# Altium footprint library WIFI（18-7-31）.PcbLib: 6 footprints
Each footprint in its own frame and in the unit in brackets; x right, y up, seen from the top. Pads: shape width x height; smd on the part's side, far side on the other; paste and mask are expansions set on the pad; w line width, h text height; cw(c..) or ccw(c..) is an arc to the next point about the centre after c.
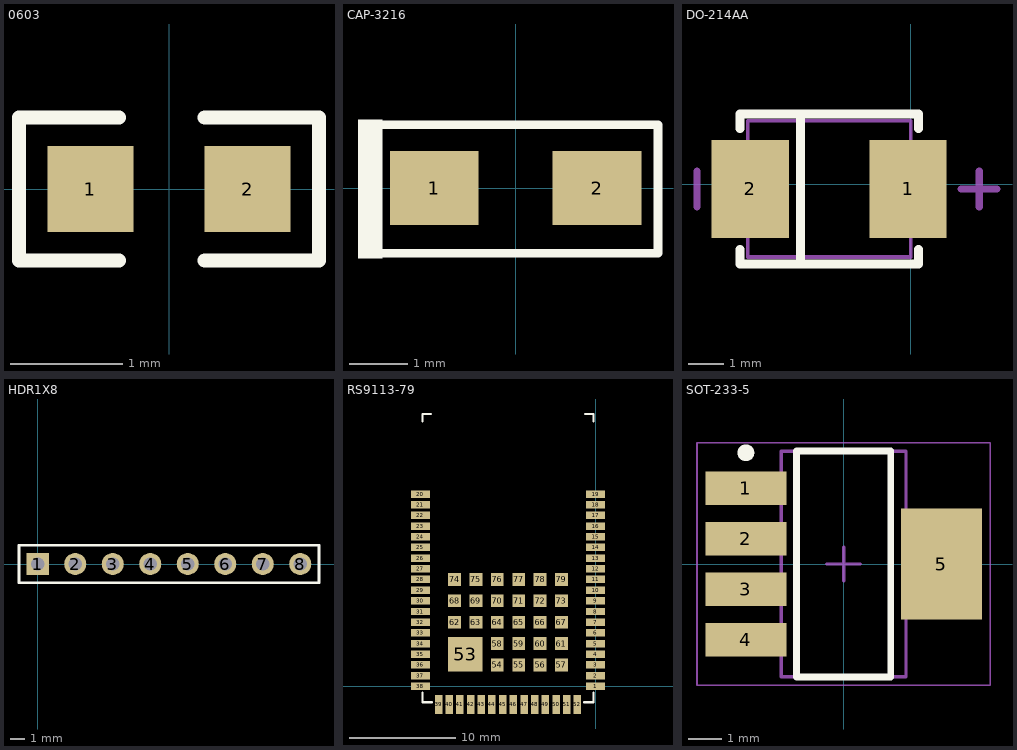
[diagram p0: the footprints below, top view; thin cyan lines are the x and y axes]

## 0603 [mil]
pads (2):
  rect 30x30 smd: 1(-27.5,0) 2(27.5,0)
Top Overlay:
  lines w5: -17.5,-25 -52.5,-25 -52.5,25 -17.5,25 ; 12.5,-25 52.5,-25 52.5,25 12.5,25
3D body: height 20.79, standoff 0.79, extent -32.5,-15 30.5,17

## CAP-3216 [mil] "钽电容"
height 78.74
pads (2):
  rect 60x50 smd: 1(-55,0) 2(55,0)
Top Overlay:
  region: -90,46.39 -106.46,46.39 -106.46,-47.61 -90,-47.61
  lines w5.91: -94.83,-43.92 96.11,-43.92 96.11,42.69 -94.83,42.69

## DO-214AA [mil]
pads (2):
  rect 85x107.99 smd: 1(-2.99,-5) 2(-177.01,-5)
Top Overlay:
  lines w10: -188.43,-71.93 -188.43,-87.68 8.43,-87.68 8.43,-71.93 ; -188.43,61.93 -188.43,77.68 8.43,77.68 8.43,61.93 ; -121.5,-87.68 -121.5,77.68
Mechanical 13:
  lines w3.94: -179.96,-80 -179.96,70 -0.04,70 -0.04,-80 -179.96,-80
Mechanical 15:
  lines w8: -235.67,-24.68 -235.67,14.69 ; 55.67,-5 95.04,-5 ; 75.35,-24.68 75.35,14.69

## HDR1X8 [mm] "Connector; Header; 8 Position"
pads (8):
  rect 1.5x1.5 hole 0.9: 1(0,0)
  round 1.5 hole 0.9: 2(2.54,0) 3(5.08,0) 4(7.62,0) 5(10.16,0) 6(12.7,0) 7(15.24,0) 8(17.78,0)
Top Overlay:
  lines w0.2: -1.27,-1.27 19.05,-1.27 19.05,1.27 -1.27,1.27 -1.27,-1.27

## RS9113-79 [mm]
pads (79):
  rect 1.8x0.7 smd: 1(0,0) 2(0,1) 3(0,2) 4(0,3) 5(0,4) 6(0,5) 7(0,6) 8(0,7) 9(0,8) 10(0,9) 11(0,10) 12(0,11) 13(0,12) 14(0,13) 15(0,14) 16(0,15) 17(0,16) 18(0,17) 19(0,18) 20(-16.4,18) 21(-16.4,17) 22(-16.4,16) 23(-16.4,15) 24(-16.4,14) 25(-16.4,13) 26(-16.4,12) 27(-16.4,11) 28(-16.4,10) 29(-16.4,9) 30(-16.4,8) 31(-16.4,7) 32(-16.4,6) 33(-16.4,5) 34(-16.4,4) 35(-16.4,3) 36(-16.4,2) 37(-16.4,1) 38(-16.4,0)
  rect 0.7x1.8 smd: 39(-14.7,-1.7) 40(-13.7,-1.7) 41(-12.7,-1.7) 42(-11.7,-1.7) 43(-10.7,-1.7) 44(-9.7,-1.7) 45(-8.7,-1.7) 46(-7.7,-1.7) 47(-6.7,-1.7) 48(-5.7,-1.7) 49(-4.7,-1.7) 50(-3.7,-1.7) 51(-2.7,-1.7) 52(-1.7,-1.7)
  rect 3.2x3.2 smd: 53(-12.2,3)
  rect 1.2x1.2 smd: 54(-9.2,2) 55(-7.2,2) 56(-5.2,2) 57(-3.2,2) 58(-9.2,4) 59(-7.2,4) 60(-5.2,4) 61(-3.2,4) 62(-13.2,6) 63(-11.2,6) 64(-9.2,6) 65(-7.2,6) 66(-5.2,6) 67(-3.2,6) 68(-13.2,8) 69(-11.2,8) 70(-9.2,8) 71(-7.2,8) 72(-5.2,8) 73(-3.2,8) 74(-13.2,10) 75(-11.2,10) 76(-9.2,10) 77(-7.2,10) 78(-5.2,10) 79(-3.2,10)
Top Overlay:
  lines w0.2: -16.2,-0.611 -16.2,-1.5 -15.311,-1.5 ; -16.2,24.789 -16.2,25.5 -15.438,25.5 ; -1.087,-1.5 -0.2,-1.5 -0.2,-0.611 ; -0.96,25.5 -0.2,25.5 -0.2,24.789

## SOT-233-5 [mm] "SOT223, 5-Leads, Body 6.50x7.00mm (avg), Pitch 1.50mm, IPC Medium Density"
height 1.8
pads (5):
  rect 2.4x1 smd: 1(-2.9,2.25) 2(-2.9,0.75) 3(-2.9,-0.75) 4(-2.9,-2.25)
  rect 2.4x3.3 smd: 5(2.9,0)
Top Overlay:
  circle w0.25: c-2.9,3.3 r0.125
  lines w0.2: -1.4,-3.35 -1.4,3.35 1.4,3.35 1.4,-3.35 -1.4,-3.35
Mechanical 13:
  lines w0.1: -1.85,-3.35 -1.85,3.35 1.85,3.35 1.85,-3.35 -1.85,-3.35
Mechanical 15:
  lines w0.05: -4.35,-3.6 -4.35,3.6 4.35,3.6 4.35,-3.6 -4.35,-3.6
  lines w0.1: -0.5,0 0.5,0 ; 0,-0.5 0,0.5
3D body: height 1.8, standoff 0.02, extent -1.85,-3.35 1.85,3.35